# EAGLE library part LED-RGB-5050 (library LED-SMD)
LED-RGB-5050
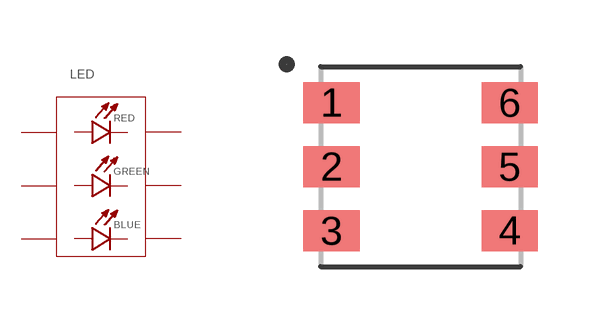
[diagram p0: symbol with the pads of LED-RGB-5050; footprint LED-RGB-5050]

Designator prefix LED

## LED-RGB-5050  [LED-RGB-5050]
1  R_A  pas
2  G_A  pas
3  B_A  pas
4  B_C  pas
5  G_C  pas
6  R_C  pas

## Footprint LED-RGB-5050 (pad centres in mm)
LED-RGB-5050-5mm
smd 1.41 x 1.03: 1 -2.226,1.6; 2 -2.226,0; 3 -2.226,-1.6; 4 2.226,-1.6; 5 2.226,0; 6 2.226,1.6